# EAGLE library part CONN-01X13 (library tmxk)
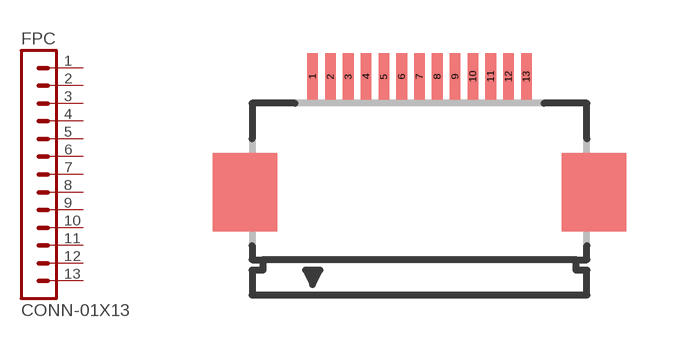
[diagram p27: symbol with the pads of FPC-0.5MM-13P; footprint FPC-0.5MM-13P]

Designator prefix FPC

## CONN-01X13  [FPC-0.5MM-13P]
1  1  pas
2  2  pas
3  3  pas
4  4  pas
5  5  pas
6  6  pas
7  7  pas
8  8  pas
9  9  pas
10  10  pas
11  11  pas
12  12  pas
13  13  pas

## Footprint FPC-0.5MM-13P (pad centres in mm)
0.5mm Pitch Connectors For FPC/FFC Source: Data sheet <http://www.hirose.co.jp/cataloge_hp/e58605370.pdf>
smd 0.3 x 1.3: 1 -3,3.25; 2 -2.5,3.25; 3 -2,3.25; 4 -1.5,3.25; 5 -1,3.25; 6 -0.5,3.25; 7 0,3.25; 8 0.5,3.25; 9 1,3.25; 10 1.5,3.25; 11 2,3.25; 12 2.5,3.25; 13 3,3.25